# EAGLE library part 64901829522 (library Wire-to-Board)
WR-MPC4-4.20mm Male Dual Row Angled Header,18 pins=>Code : WR-MPC4_Stiftbuchse_2reihig_abgewinkelt_64901829522 <http://katalog.we-online.de/media/thumbs2/eican/thb_WR-MPC4_Stiftbuchse_2reihig_abgewinkelt_64901029522.jpg> Details see: http://katalog.we-online.de/en/em/649_0xx_295_22 Created 2014-06-06, Karrer Zheng 2014 (C) Würth Elektronik
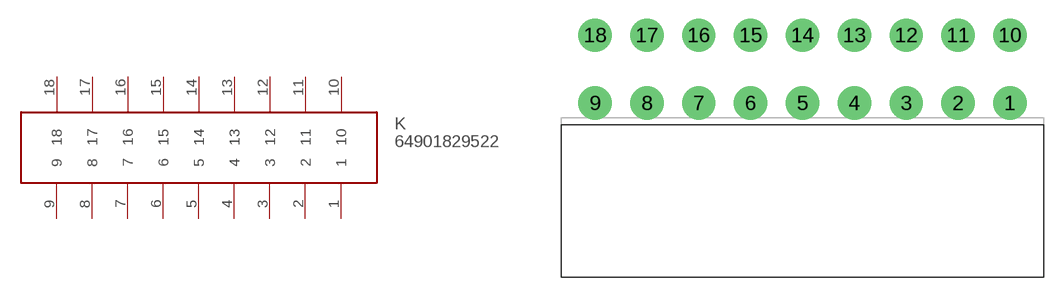
[diagram p309: symbol with the pads of 64901829522; footprint 64901829522]

Designator prefix K

## 64901829522  [64901829522]
1  1
2  2
3  3
4  4
5  5
6  6
7  7
8  8
9  9
10  10
11  11
12  12
13  13
14  14
15  15
16  16
17  17
18  18

## Footprint 64901829522 (pad centres in mm)
WR-MPC4-4.20mm Male Dual Row Angled Header,18 pins
drill 1.8: 1 15.385,-2.75; 2 11.185,-2.75; 3 6.985,-2.75; 4 2.785,-2.75; 5 -1.415,-2.75; 6 -5.615,-2.75; 7 -9.815,-2.75; 8 -14.015,-2.75; 9 -18.215,-2.75; 10 15.385,2.75; 11 11.185,2.75; 12 6.985,2.75; 13 2.785,2.75; 14 -1.415,2.75; 15 -5.615,2.75; 16 -9.815,2.75; 17 -14.015,2.75; 18 -18.215,2.75